# Altium footprint library amplifier1.PcbLib: 9 footprints
Each footprint in its own frame and in the unit in brackets; x right, y up, seen from the top. Pads: shape width x height; smd on the part's side, far side on the other; paste and mask are expansions set on the pad; w line width, h text height; cw(c..) or ccw(c..) is an arc to the next point about the centre after c.
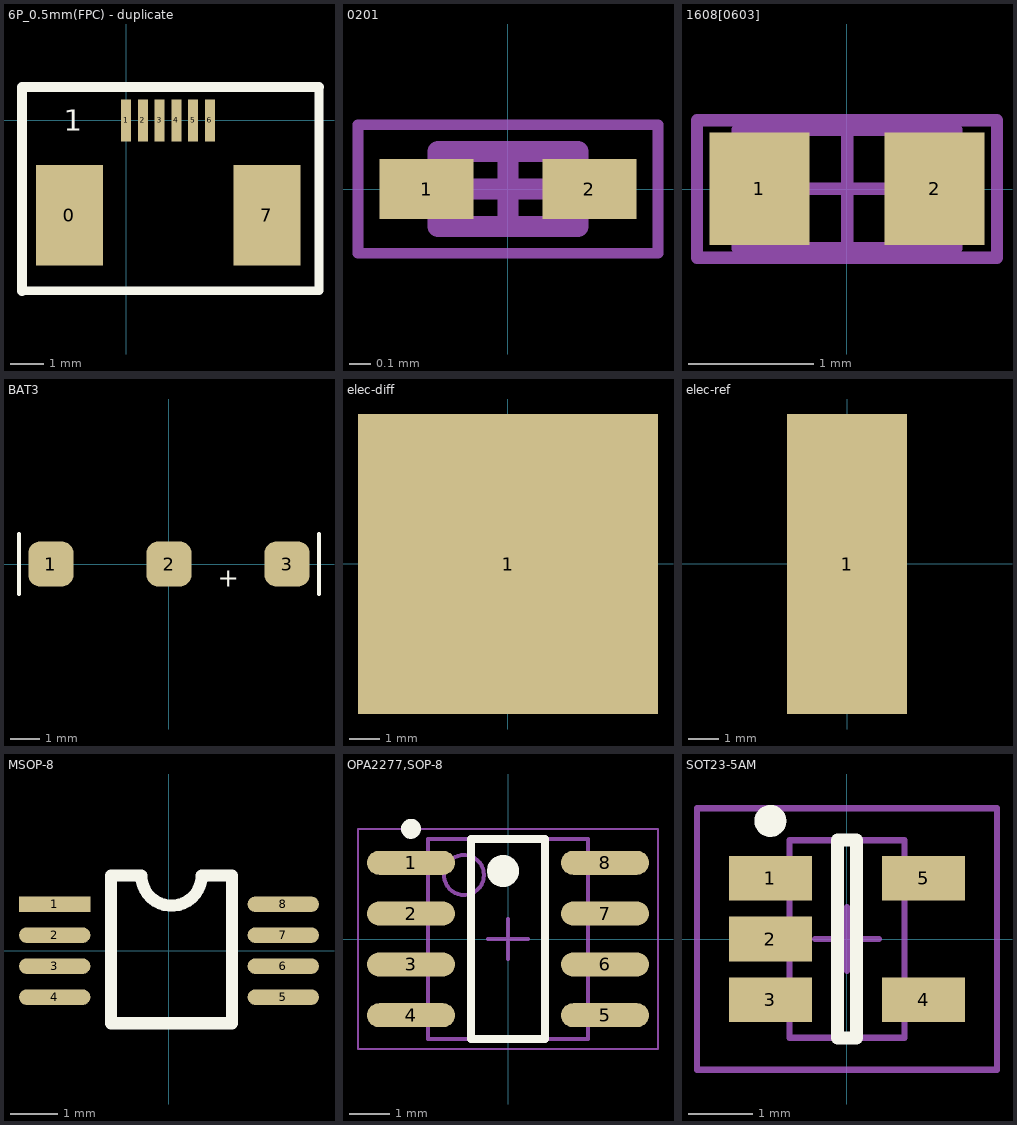
[diagram p0: the footprints below, top view; thin cyan lines are the x and y axes]

## 6P_0.5mm(FPC) - duplicate [mm]
height 2
pads (8):
  rect 2x3 smd: 0(-1.69,-2.825) 7(4.2,-2.825)
  rect 0.3x1.25 smd mask+0.051: 1(0,0) 2(0.5,0) 3(1,0) 4(1.5,0) 5(2,0) 6(2.5,0)
Top Overlay:
  lines w0.254: -3.1,-5.08 -0.887,-5.08 0.219,-5.08 2.431,-5.08 3.538,-5.08 5.75,-5.08 5.75,0.988
  lines w0.3: -3.1,-5.08 -3.1,0.988 5.75,0.988
  text "1" at -1.85,-0.312 h0.64

## 0201 [mm] "0201"
height 0.28
pads (2):
  rect 0.44x0.28 smd: 1(-0.38,0) 2(0.38,0)
Mechanical 13:
  lines w0.1: -0.325,-0.175 0.325,-0.175 0.325,0.175 -0.325,0.175 -0.325,-0.175
Mechanical 15:
  lines w0.05: -0.7,-0.3 0.7,-0.3 0.7,0.3 -0.7,0.3 -0.7,-0.3
  lines w0.1: -0.175,0 0.175,0 ; 0,-0.175 0,0.175
3D body: height 0.28, standoff 0, extent 0.225,-0.175 0.325,0.175
3D body: height 0.28, standoff 0, extent -0.325,-0.175 -0.225,0.175
3D body: height 0.28, standoff 0, extent -0.225,-0.175 0.225,0.175

## 1608[0603] [mm] "Chip Capacitor, Body 1.6x0.8mm, IPC High Density"
height 1.3
pads (2):
  rect 0.8x0.9 smd: 1(-0.7,0) 2(0.7,0)
Mechanical 13:
  lines w0.1: -0.875,-0.475 0.875,-0.475 0.875,0.475 -0.875,0.475 -0.875,-0.475
Mechanical 15:
  lines w0.1: -0.475,0 0.475,0 ; 0,-0.475 0,0.475 ; -1.2,-0.55 1.2,-0.55 1.2,0.55 -1.2,0.55 -1.2,-0.55
3D body: height 1.3, standoff 0, extent -0.875,-0.475 0.875,0.475

## BAT3 [mil]
height 78.74
pads (3):
  rrect50% 60x60 smd: 1(-157.48,0) 2(0,0) 3(157.48,0)
Top Overlay:
  lines w5.91: -200,-40 -200,40 ; 200,-40 200,40
  text "+" at 65,-30 h25

## elec-diff [mm] "12*5mm"
height 2
pads (1):
  rect 10x10 smd: 1(0,0)

## elec-ref [mm] "12*5mm"
height 2
pads (1):
  rect 4x10 smd: 1(0,0)

## MSOP-8 [mm]
height 2
pads (8):
  rect 1.5x0.325 smd: 1(-2.4,0.975)
  oval 1.5x0.325 smd: 2(-2.4,0.325) 3(-2.4,-0.325) 4(-2.4,-0.975) 5(2.4,-0.975) 6(2.4,-0.325) 7(2.4,0.325) 8(2.4,0.975)
Top Overlay:
  lines w0.254: -1.217,-1.525 1.323,-1.525 1.323,1.58 0.688,1.58 cw(c0.053,1.58) -0.582,1.58 -1.217,1.58 -1.217,-1.525

## OPA2277,SOP-8 [mm] "SOP127P600-8N"
height 1.75
pads (8):
  oval 2.2x0.6 smd: 1(-2.425,1.905) 2(-2.425,0.635) 3(-2.425,-0.635) 4(-2.425,-1.905) 5(2.425,-1.905) 6(2.425,-0.635) 7(2.425,0.635) 8(2.425,1.905)
Top Overlay:
  circle w0.25: c-2.425,2.755 r0.125
  circle w0.4: c-0.125,1.7 r0.2
  lines w0.2: -0.925,-2.5 -0.925,2.5 0.925,2.5 0.925,-2.5 -0.925,-2.5
Mechanical 13:
  circle w0.1: c-1.1,1.6 r0.5
  lines w0.1: -2,-2.5 -2,2.5 2,2.5 2,-2.5 -2,-2.5
Mechanical 15:
  lines w0.05: -3.75,-2.75 -3.75,2.75 3.75,2.75 3.75,-2.75 -3.75,-2.75
  lines w0.1: -0.5,0 0.5,0 ; 0,-0.5 0,0.5
3D body: height 1.75, standoff 0.25, extent -2,-2.5 2,2.5

## SOT23-5AM [mm] "SOT23, 5-Leads, Body 2.9x1.7mm, Pitch 0.95mm, Lead Span 2.8mm, IPC Low Density"
height 1.45
pads (5):
  rect 1.3x0.7 smd: 1(-1.2,0.95) 2(-1.2,0) 3(-1.2,-0.95) 4(1.2,-0.95) 5(1.2,0.95)
Top Overlay:
  circle w0.25: c-1.2,1.85 r0.125
  lines w0.2: -0.15,-1.55 0.15,-1.55 0.15,1.55 -0.15,1.55 -0.15,-1.55
Mechanical 13:
  lines w0.1: -0.9,-1.55 -0.9,1.55 0.9,1.55 0.9,-1.55 -0.9,-1.55
Mechanical 15:
  lines w0.1: -0.5,0 0.5,0 ; 0,-0.5 0,0.5 ; -2.35,-2.05 -2.35,2.05 2.35,2.05 2.35,-2.05 -2.35,-2.05
3D body: height 1.45, standoff 0, extent -0.9,-1.55 0.9,1.55